# EAGLE library part HIROSE-DX10LM1-14SE (library con-hirose-dx10lm1-14se)
HIROSE DX10LM1-14SE
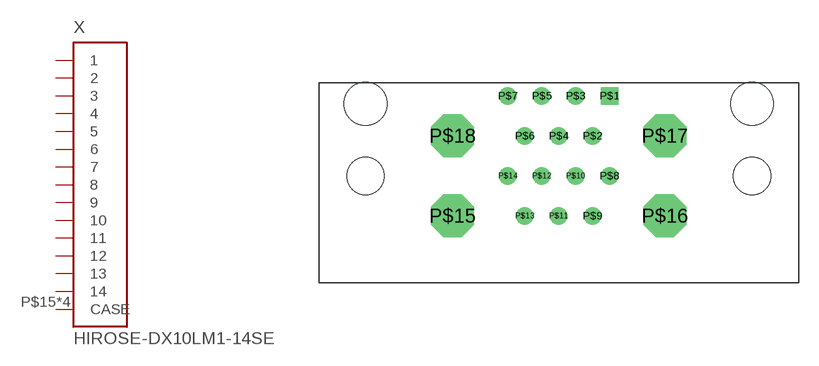
[diagram p0: symbol with the pads of HIROSE-DX10LM1-14SE; footprint HIROSE-DX10LM1-14SE]

Designator prefix X

## HIROSE-DX10LM1-14SE  [HIROSE-DX10LM1-14SE]
P$1  1
P$2  2
P$3  3
P$4  4
P$5  5
P$6  6
P$7  7
P$8  8
P$9  9
P$10  10
P$11  11
P$12  12
P$13  13
P$14  14
P$15  CASE
P$16  CASE
P$17  CASE
P$18  CASE

## Footprint HIROSE-DX10LM1-14SE (pad centres in mm)
AXR30545 Connector Source: http://www.panasonic-electric-works.ch/home/www/catalogues/connector/download/en_ds_65201_0000.pdf
drill 0.8 square: P$1 3.81,9
drill 0.8: P$2 2.54,6; P$3 1.27,9; P$4 0,6; P$5 -1.27,9; P$6 -2.54,6; P$7 -3.81,9; P$8 3.81,3; P$9 2.54,0; P$10 1.27,3; P$11 0,0; P$12 -1.27,3; P$13 -2.54,0; P$14 -3.81,3
drill 2.2 octagon: P$15 -7.97,0; P$16 7.97,0; P$17 7.97,6; P$18 -7.97,6
hole 2.8 at -14.5,3
hole 2.8 at 14.5,3
hole 3.2 at -14.5,8.4
hole 3.2 at 14.5,8.4